# EAGLE library part 649006227222 (library Wuerth_Elektronik_eiCan_07_Mini_Power_Connectors)
WR-MPC4-4.20mm Male Dual Row Angled Header with Mounting Pegs,6 pins
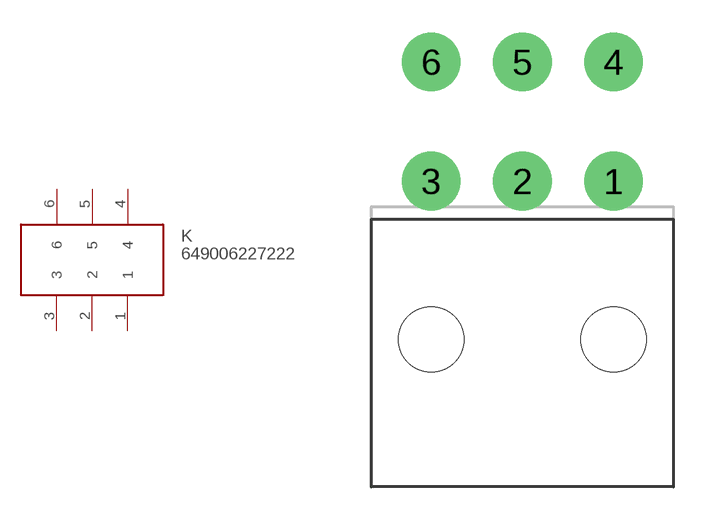
[diagram p10: symbol with the pads of 649006227222; footprint 649006227222]

Designator prefix K

## 649006227222  [649006227222]
1  1
2  2
3  3
4  4
5  5
6  6

## Footprint 649006227222 (pad centres in mm)
WR-MPC4-4.20mm Male Dual Row Angled Header with Mounting Pegs,6 pins
drill 1.8 round: 1 3.385,-2.75; 2 -0.815,-2.75; 3 -5.015,-2.75; 4 3.385,2.75; 5 -0.815,2.75; 6 -5.015,2.75
hole 3 at -5.015,-10.05
hole 3 at 3.385,-10.05